# Altium schematic symbol library TI DRV5053 SOT23.SchLib: 1 symbol
Pins are listed as number, name and electrical type; pins without a type are passive.

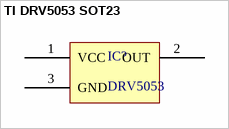
[diagram p0: symbol TI DRV5053 SOT23]

## TI DRV5053 SOT23
designator IC?, comment DRV5053
pins: 1 VCC, 2 OUT, 3 GND